# Altium schematic symbol library INA226.Schlib: 1 symbol
Pins are listed as number, name and electrical type; pins without a type are passive.

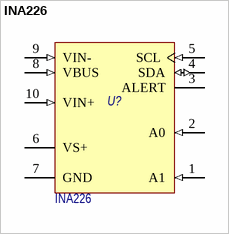
[diagram p0: symbol INA226]

## INA226
designator U?, comment Наименование: INA226  (hidden comment: INA261)
High- or Low-Side Measurement, Bidirectional Current and Power Monitor With I2C Interface; Назначение: High-Side or Low-Side Measurement,; Потребление, Вт: 0,001; ComponentLink1Description: Data sheet; ComponentLink1URL: http://www.ti.com/lit/ds/symlink/ina226.pdf
footprint VSSOP-8 (Small Outline Package, 8-pin, 3x3mm, 1.1mm height)
pins: 1 A1 (in) "Address pin. Connect to GND, SCL, SDA, or VS.", 2 A0 (in) "Address pin. Connect to GND, SCL, SDA, or VS.", 3 ALERT (oc) "Multi-functional alert, open-drain output.", 4 SDA (io) "Serial bus data line, open-drain input/output.", 5 SCL (in) "Serial bus clock line, open-drain input.", 6 VS+ (power) "Power supply, 2.7V to 5.5V.", 7 GND (power) "Ground.", 8 VBUS (in) "Bus voltage input.", 9 VIN- (in) "Negative differential shunt voltage. Connect to negative side of shunt resistor.", 10 VIN+ (in) "Positive differential shunt voltage. Connect to positive side of shunt resistor."